# Altium footprint library CAPAE830X1050.PcbLib: 1 footprints
Each footprint in its own frame and in the unit in brackets; x right, y up, seen from the top. Pads: shape width x height; smd on the part's side, far side on the other; paste and mask are expansions set on the pad; w line width, h text height; cw(c..) or ccw(c..) is an arc to the next point about the centre after c.
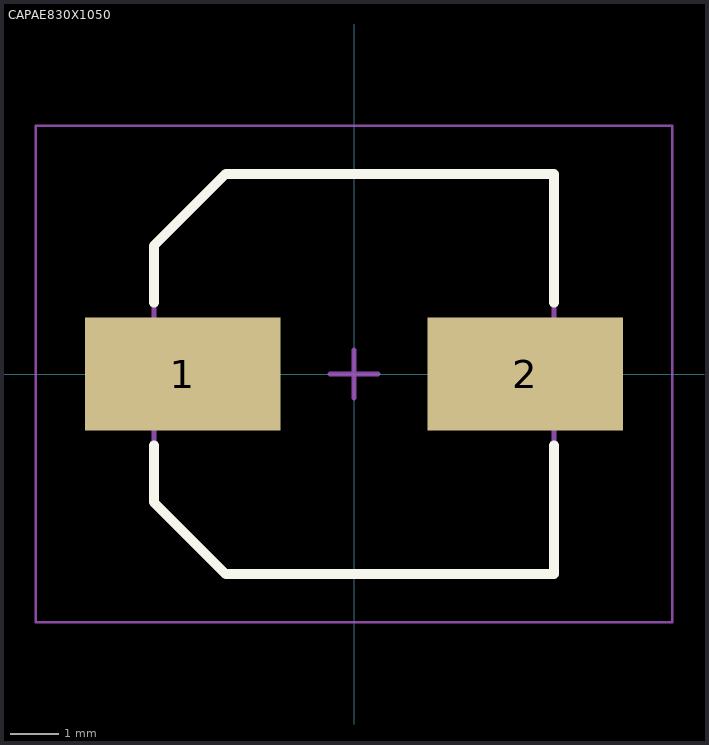
[diagram p0: the footprint, top view; thin cyan lines are the x and y axes]

## CAPAE830X1050 [mm] "Aluminum Electrolytic Capacitor, Body 8,30x8,30x10,50mm, IPC Low Density"
height 10.5
pads (2):
  rect 4.05x2.35 smd: 1(-3.55,0) 2(3.55,0)
Top Overlay:
  lines w0.2: -4.15,-1.475 -4.15,-2.663 -2.663,-4.15 4.15,-4.15 4.15,-1.475 ; -4.15,1.475 -4.15,2.662 -2.663,4.15 4.15,4.15 4.15,1.475
3D Body:
  lines w0.1: -4.15,-2.663 -2.663,-4.15 4.15,-4.15 4.15,4.15 -2.663,4.15 -4.15,2.662 -4.15,-2.663
Board:
  lines w0.05: -6.6,-5.15 -6.6,5.15 6.6,5.15 6.6,-5.15 -6.6,-5.15
  lines w0.1: -0.5,0 0.5,0 ; 0,-0.5 0,0.5
3D body: height 3.5, standoff 0, extent -4.15,-4.15 4.15,4.15
3D body: height 10.5, standoff 0, extent -4,-4 4,3.994